# Altium footprint library PCB - CRYSTALS - ABRACON ATXAIG-H13.PCBLIB: 1 footprints
Each footprint in its own frame and in the unit in brackets; x right, y up, seen from the top. Pads: shape width x height; smd on the part's side, far side on the other; paste and mask are expansions set on the pad; w line width, h text height; cw(c..) or ccw(c..) is an arc to the next point about the centre after c.
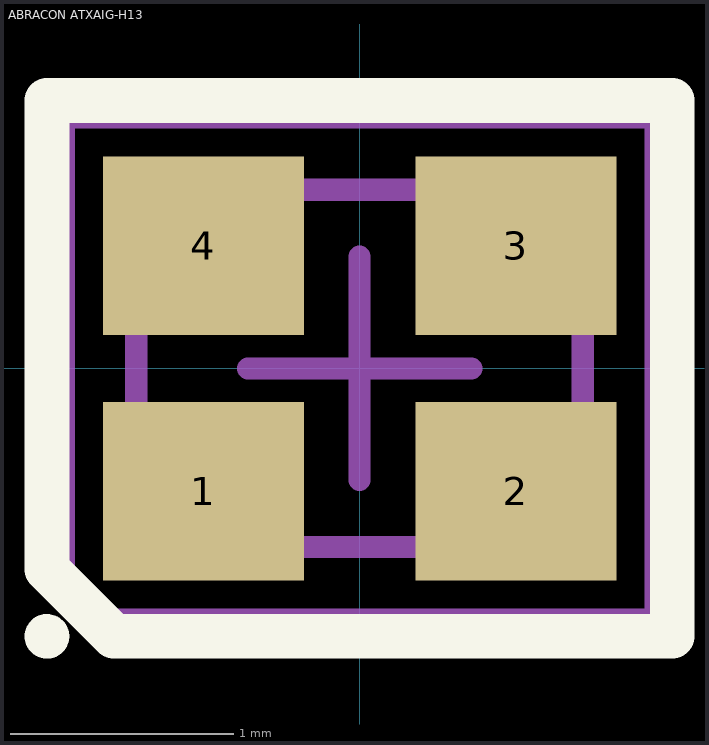
[diagram p0: the footprint, top view; thin cyan lines are the x and y axes]

## ABRACON ATXAIG-H13 [mm] "Crystal, 4-Leads, Body 1.60x2.00mm, Pitch 1.40mm"
height 0.8
pads (4):
  rect 0.9x0.8 smd: 1(-0.7,-0.55) 2(0.7,-0.55) 3(0.7,0.55) 4(-0.7,0.55)
Top Overlay:
  circle w0.1: c-1.4,-1.2 r0.05
  lines w0.2: -1.4,-0.9 -1.4,1.2 1.4,1.2 1.4,-1.2 -1.1,-1.2 -1.4,-0.9
Mechanical 13:
  lines w0.1: -1,-0.8 1,-0.8 1,0.8 -1,0.8 -1,-0.8
Mechanical 15:
  lines w0.05: -1.3,-1.1 1.3,-1.1 1.3,1.1 -1.3,1.1 -1.3,-1.1
  lines w0.1: -0.5,0 0.5,0 ; 0,-0.5 0,0.5
3D body "Abracon ATXAIG-H13.step": height 0.8, standoff 0, extent -1,-0.8 1,0.8